# Altium schematic symbol library Screens.SchLib: 1 symbol
Pins are listed as number, name and electrical type; pins without a type are passive.

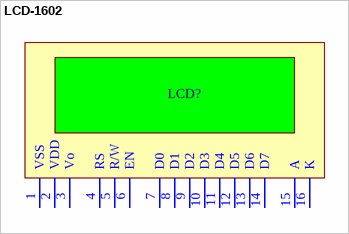
[diagram p0: symbol LCD-1602]

## LCD-1602
designator LCD?, comment LCD1602  (value not drawn)
footprint LCD-1602-GREEN-MODULE
footprint LCD-1602-GREEN-MODULE-WITH-HDR
footprint LCD-1602-BLUE-MODULE
footprint LCD-1602-BLUE-MODULE-WITH-HDR
pins: 1 VSS, 2 VDD, 3 Vo, 4 RS, 5 R/W, 6 EN, 7 D0, 8 D1, 9 D2, 10 D3, 11 D4, 12 D5, 13 D6, 14 D7, 15 A, 16 K